# EAGLE library part XC3S-PQ208 (library Xilinx)
Spartan-3 XC3S50, XC3S200, XC3S400 in a PQ208 package
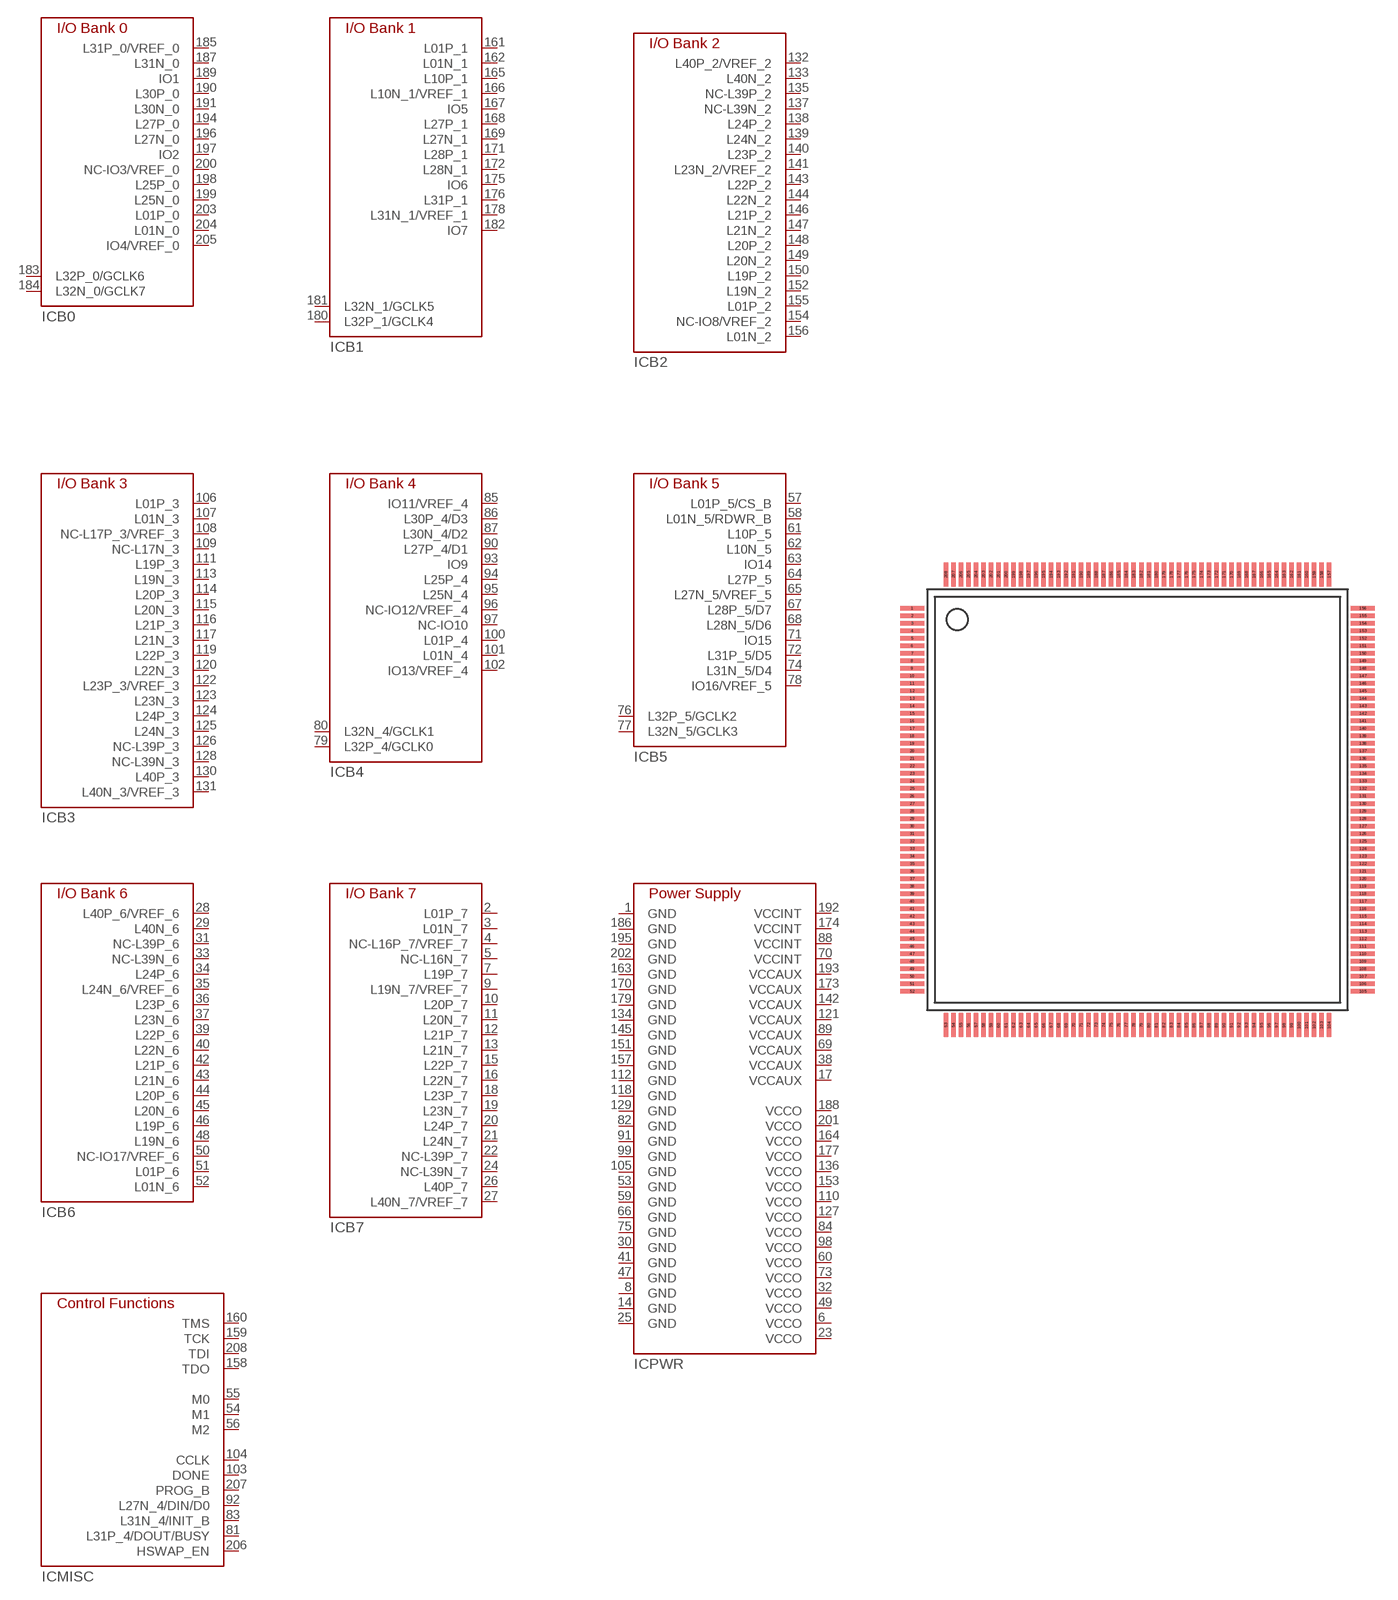
[diagram p22: symbol with the pads of PQ208; footprint PQ208]

Designator prefix IC; gates B0=XC3S/PQ208-B0 B1=XC3S/PQ208-B1 B2=XC3S/PQ208-B2 B3=XC3S/PQ208-B3 B4=XC3S/PQ208-B4 B5=XC3S/PQ208-B5 B6=XC3S/PQ208-B6 B7=XC3S/PQ208-B7 PWR=XC3S/PQ208-PWR MISC=XC3S/PQ208-MISC

## XC3S-PQ208  [PQ208]
1  PWR:GND  pwr
2  B7:L01P_7
3  B7:L01N_7
4  B7:NC-L16P_7/VREF_7
5  B7:NC-L16N_7
6  PWR:VCCO  pwr
7  B7:L19P_7
8  PWR:GND  pwr
9  B7:L19N_7/VREF_7
10  B7:L20P_7
11  B7:L20N_7
12  B7:L21P_7
13  B7:L21N_7
14  PWR:GND  pwr
15  B7:L22P_7
16  B7:L22N_7
17  PWR:VCCAUX  pwr
18  B7:L23P_7
19  B7:L23N_7
20  B7:L24P_7
21  B7:L24N_7
22  B7:NC-L39P_7
23  PWR:VCCO  pwr
24  B7:NC-L39N_7
25  PWR:GND  pwr
26  B7:L40P_7
27  B7:L40N_7/VREF_7
28  B6:L40P_6/VREF_6
29  B6:L40N_6
30  PWR:GND  pwr
31  B6:NC-L39P_6
32  PWR:VCCO  pwr
33  B6:NC-L39N_6
34  B6:L24P_6
35  B6:L24N_6/VREF_6
36  B6:L23P_6
37  B6:L23N_6
38  PWR:VCCAUX  pwr
39  B6:L22P_6
40  B6:L22N_6
41  PWR:GND  pwr
42  B6:L21P_6
43  B6:L21N_6
44  B6:L20P_6
45  B6:L20N_6
46  B6:L19P_6
47  PWR:GND  pwr
48  B6:L19N_6
49  PWR:VCCO  pwr
50  B6:NC-IO17/VREF_6
51  B6:L01P_6
52  B6:L01N_6
53  PWR:GND  pwr
54  MISC:M1
55  MISC:M0
56  MISC:M2
57  B5:L01P_5/CS_B
58  B5:L01N_5/RDWR_B
59  PWR:GND  pwr
60  PWR:VCCO  pwr
61  B5:L10P_5
62  B5:L10N_5
63  B5:IO14
64  B5:L27P_5
65  B5:L27N_5/VREF_5
66  PWR:GND  pwr
67  B5:L28P_5/D7
68  B5:L28N_5/D6
69  PWR:VCCAUX  pwr
70  PWR:VCCINT  pwr
71  B5:IO15
72  B5:L31P_5/D5
73  PWR:VCCO  pwr
74  B5:L31N_5/D4
75  PWR:GND  pwr
76  B5:L32P_5/GCLK2
77  B5:L32N_5/GCLK3
78  B5:IO16/VREF_5
79  B4:L32P_4/GCLK0
80  B4:L32N_4/GCLK1
81  MISC:L31P_4/DOUT/BUSY
82  PWR:GND  pwr
83  MISC:L31N_4/INIT_B
84  PWR:VCCO  pwr
85  B4:IO11/VREF_4
86  B4:L30P_4/D3
87  B4:L30N_4/D2
88  PWR:VCCINT  pwr
89  PWR:VCCAUX  pwr
90  B4:L27P_4/D1
91  PWR:GND  pwr
92  MISC:L27N_4/DIN/D0
93  B4:IO9
94  B4:L25P_4
95  B4:L25N_4
96  B4:NC-IO12/VREF_4
97  B4:NC-IO10
98  PWR:VCCO  pwr
99  PWR:GND  pwr
100  B4:L01P_4
101  B4:L01N_4
102  B4:IO13/VREF_4
103  MISC:DONE
104  MISC:CCLK
105  PWR:GND  pwr
106  B3:L01P_3
107  B3:L01N_3
108  B3:NC-L17P_3/VREF_3
109  B3:NC-L17N_3
110  PWR:VCCO  pwr
111  B3:L19P_3
112  PWR:GND  pwr
113  B3:L19N_3
114  B3:L20P_3
115  B3:L20N_3
116  B3:L21P_3
117  B3:L21N_3
118  PWR:GND  pwr
119  B3:L22P_3
120  B3:L22N_3
121  PWR:VCCAUX  pwr
122  B3:L23P_3/VREF_3
123  B3:L23N_3
124  B3:L24P_3
125  B3:L24N_3
126  B3:NC-L39P_3
127  PWR:VCCO  pwr
128  B3:NC-L39N_3
129  PWR:GND  pwr
130  B3:L40P_3
131  B3:L40N_3/VREF_3
132  B2:L40P_2/VREF_2
133  B2:L40N_2
134  PWR:GND  pwr
135  B2:NC-L39P_2
136  PWR:VCCO  pwr
137  B2:NC-L39N_2
138  B2:L24P_2
139  B2:L24N_2
140  B2:L23P_2
141  B2:L23N_2/VREF_2
142  PWR:VCCAUX  pwr
143  B2:L22P_2
144  B2:L22N_2
145  PWR:GND  pwr
146  B2:L21P_2
147  B2:L21N_2
148  B2:L20P_2
149  B2:L20N_2
150  B2:L19P_2
151  PWR:GND  pwr
152  B2:L19N_2
153  PWR:VCCO  pwr
154  B2:NC-IO8/VREF_2
155  B2:L01P_2
156  B2:L01N_2
157  PWR:GND  pwr
158  MISC:TDO
159  MISC:TCK
160  MISC:TMS
161  B1:L01P_1
162  B1:L01N_1
163  PWR:GND  pwr
164  PWR:VCCO  pwr
165  B1:L10P_1
166  B1:L10N_1/VREF_1
167  B1:IO5
168  B1:L27P_1
169  B1:L27N_1
170  PWR:GND  pwr
171  B1:L28P_1
172  B1:L28N_1
173  PWR:VCCAUX  pwr
174  PWR:VCCINT  pwr
175  B1:IO6
176  B1:L31P_1
177  PWR:VCCO  pwr
178  B1:L31N_1/VREF_1
179  PWR:GND  pwr
180  B1:L32P_1/GCLK4
181  B1:L32N_1/GCLK5
182  B1:IO7
183  B0:L32P_0/GCLK6
184  B0:L32N_0/GCLK7
185  B0:L31P_0/VREF_0
186  PWR:GND  pwr
187  B0:L31N_0
188  PWR:VCCO  pwr
189  B0:IO1
190  B0:L30P_0
191  B0:L30N_0
192  PWR:VCCINT  pwr
193  PWR:VCCAUX  pwr
194  B0:L27P_0
195  PWR:GND  pwr
196  B0:L27N_0
197  B0:IO2
198  B0:L25P_0
199  B0:L25N_0
200  B0:NC-IO3/VREF_0
201  PWR:VCCO  pwr
202  PWR:GND  pwr
203  B0:L01P_0
204  B0:L01N_0
205  B0:IO4/VREF_0
206  MISC:HSWAP_EN
207  MISC:PROG_B
208  MISC:TDI

## Footprint PQ208 (pad centres in mm)
smd 1.6 x 0.3: 1 -15,12.75; 2 -15,12.25; 3 -15,11.75; 4 -15,11.25; 5 -15,10.75; 6 -15,10.25; 7 -15,9.75; 8 -15,9.25; 9 -15,8.75; 10 -15,8.25; 11 -15,7.75; 12 -15,7.25; 13 -15,6.75; 14 -15,6.25; 15 -15,5.75; 16 -15,5.25; 17 -15,4.75; 18 -15,4.25; 19 -15,3.75; 20 -15,3.25; 21 -15,2.75; 22 -15,2.25; 23 -15,1.75; 24 -15,1.25; 25 -15,0.75; 26 -15,0.25; 27 -15,-0.25; 28 -15,-0.75; 29 -15,-1.25; 30 -15,-1.75; 31 -15,-2.25; 32 -15,-2.75; 33 -15,-3.25; 34 -15,-3.75; 35 -15,-4.25; 36 -15,-4.75; 37 -15,-5.25; 38 -15,-5.75; 39 -15,-6.25; 40 -15,-6.75; 41 -15,-7.25; 42 -15,-7.75; 43 -15,-8.25; 44 -15,-8.75; 45 -15,-9.25; 46 -15,-9.75; 47 -15,-10.25; 48 -15,-10.75; 49 -15,-11.25; 50 -15,-11.75; 51 -15,-12.25; 52 -15,-12.75; 105 15,-12.75; 106 15,-12.25; 107 15,-11.75; 108 15,-11.25; 109 15,-10.75; 110 15,-10.25; 111 15,-9.75; 112 15,-9.25; 113 15,-8.75; 114 15,-8.25; 115 15,-7.75; 116 15,-7.25; 117 15,-6.75; 118 15,-6.25; 119 15,-5.75; 120 15,-5.25; 121 15,-4.75; 122 15,-4.25; 123 15,-3.75; 124 15,-3.25; 125 15,-2.75; 126 15,-2.25; 127 15,-1.75; 128 15,-1.25; 129 15,-0.75; 130 15,-0.25; 131 15,0.25; 132 15,0.75; 133 15,1.25; 134 15,1.75; 135 15,2.25; 136 15,2.75; 137 15,3.25; 138 15,3.75; 139 15,4.25; 140 15,4.75; 141 15,5.25; 142 15,5.75; 143 15,6.25; 144 15,6.75; 145 15,7.25; 146 15,7.75; 147 15,8.25; 148 15,8.75; 149 15,9.25; 150 15,9.75; 151 15,10.25; 152 15,10.75; 153 15,11.25; 154 15,11.75; 155 15,12.25; 156 15,12.75
smd 0.3 x 1.6: 53 -12.75,-15; 54 -12.25,-15; 55 -11.75,-15; 56 -11.25,-15; 57 -10.75,-15; 58 -10.25,-15; 59 -9.75,-15; 60 -9.25,-15; 61 -8.75,-15; 62 -8.25,-15; 63 -7.75,-15; 64 -7.25,-15; 65 -6.75,-15; 66 -6.25,-15; 67 -5.75,-15; 68 -5.25,-15; 69 -4.75,-15; 70 -4.25,-15; 71 -3.75,-15; 72 -3.25,-15; 73 -2.75,-15; 74 -2.25,-15; 75 -1.75,-15; 76 -1.25,-15; 77 -0.75,-15; 78 -0.25,-15; 79 0.25,-15; 80 0.75,-15; 81 1.25,-15; 82 1.75,-15; 83 2.25,-15; 84 2.75,-15; 85 3.25,-15; 86 3.75,-15; 87 4.25,-15; 88 4.75,-15; 89 5.25,-15; 90 5.75,-15; 91 6.25,-15; 92 6.75,-15; 93 7.25,-15; 94 7.75,-15; 95 8.25,-15; 96 8.75,-15; 97 9.25,-15; 98 9.75,-15; 99 10.25,-15; 100 10.75,-15; 101 11.25,-15; 102 11.75,-15; 103 12.25,-15; 104 12.75,-15; 157 12.75,15; 158 12.25,15; 159 11.75,15; 160 11.25,15; 161 10.75,15; 162 10.25,15; 163 9.75,15; 164 9.25,15; 165 8.75,15; 166 8.25,15; 167 7.75,15; 168 7.25,15; 169 6.75,15; 170 6.25,15; 171 5.75,15; 172 5.25,15; 173 4.75,15; 174 4.25,15; 175 3.75,15; 176 3.25,15; 177 2.75,15; 178 2.25,15; 179 1.75,15; 180 1.25,15; 181 0.75,15; 182 0.25,15; 183 -0.25,15; 184 -0.75,15; 185 -1.25,15; 186 -1.75,15; 187 -2.25,15; 188 -2.75,15; 189 -3.25,15; 190 -3.75,15; 191 -4.25,15; 192 -4.75,15; 193 -5.25,15; 194 -5.75,15; 195 -6.25,15; 196 -6.75,15; 197 -7.25,15; 198 -7.75,15; 199 -8.25,15; 200 -8.75,15; 201 -9.25,15; 202 -9.75,15; 203 -10.25,15; 204 -10.75,15; 205 -11.25,15; 206 -11.75,15; 207 -12.25,15; 208 -12.75,15